# EAGLE library part 16P (library con-dg55)
DEGSON DG55 CONNECTOR
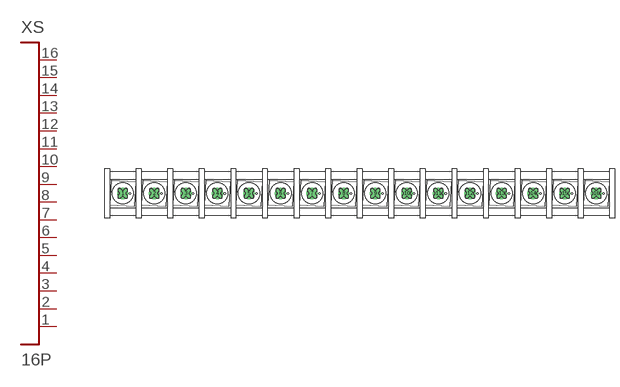
[diagram p10: symbol with the pads of DG55CB-16P-1; footprint DG55CB-16P-1]

Designator prefix XS

## 16P  [DG55CB-16P-1]
1  P$1
2  P$2
3  P$3
4  P$4
5  P$5
6  P$6
7  P$7
8  P$8
9  P$9
10  P$10
11  P$11
12  P$12
13  P$13
14  P$14
15  P$15
16  P$16

## Footprint DG55CB-16P-1 (pad centres in mm)
DG55
drill 1.8 pad 3.6: 1 -75,0; 2 -65,0; 3 -55,0; 4 -45,0; 5 -35,0; 6 -25,0; 7 -15,0; 8 -5,0; 9 5,0; 10 15,0; 11 25,0; 12 35,0; 13 45,0; 14 55,0; 15 65,0; 16 75,0